# Altium schematic symbol library IntLib.SchLib: 161 symbols (part 3 of 3)
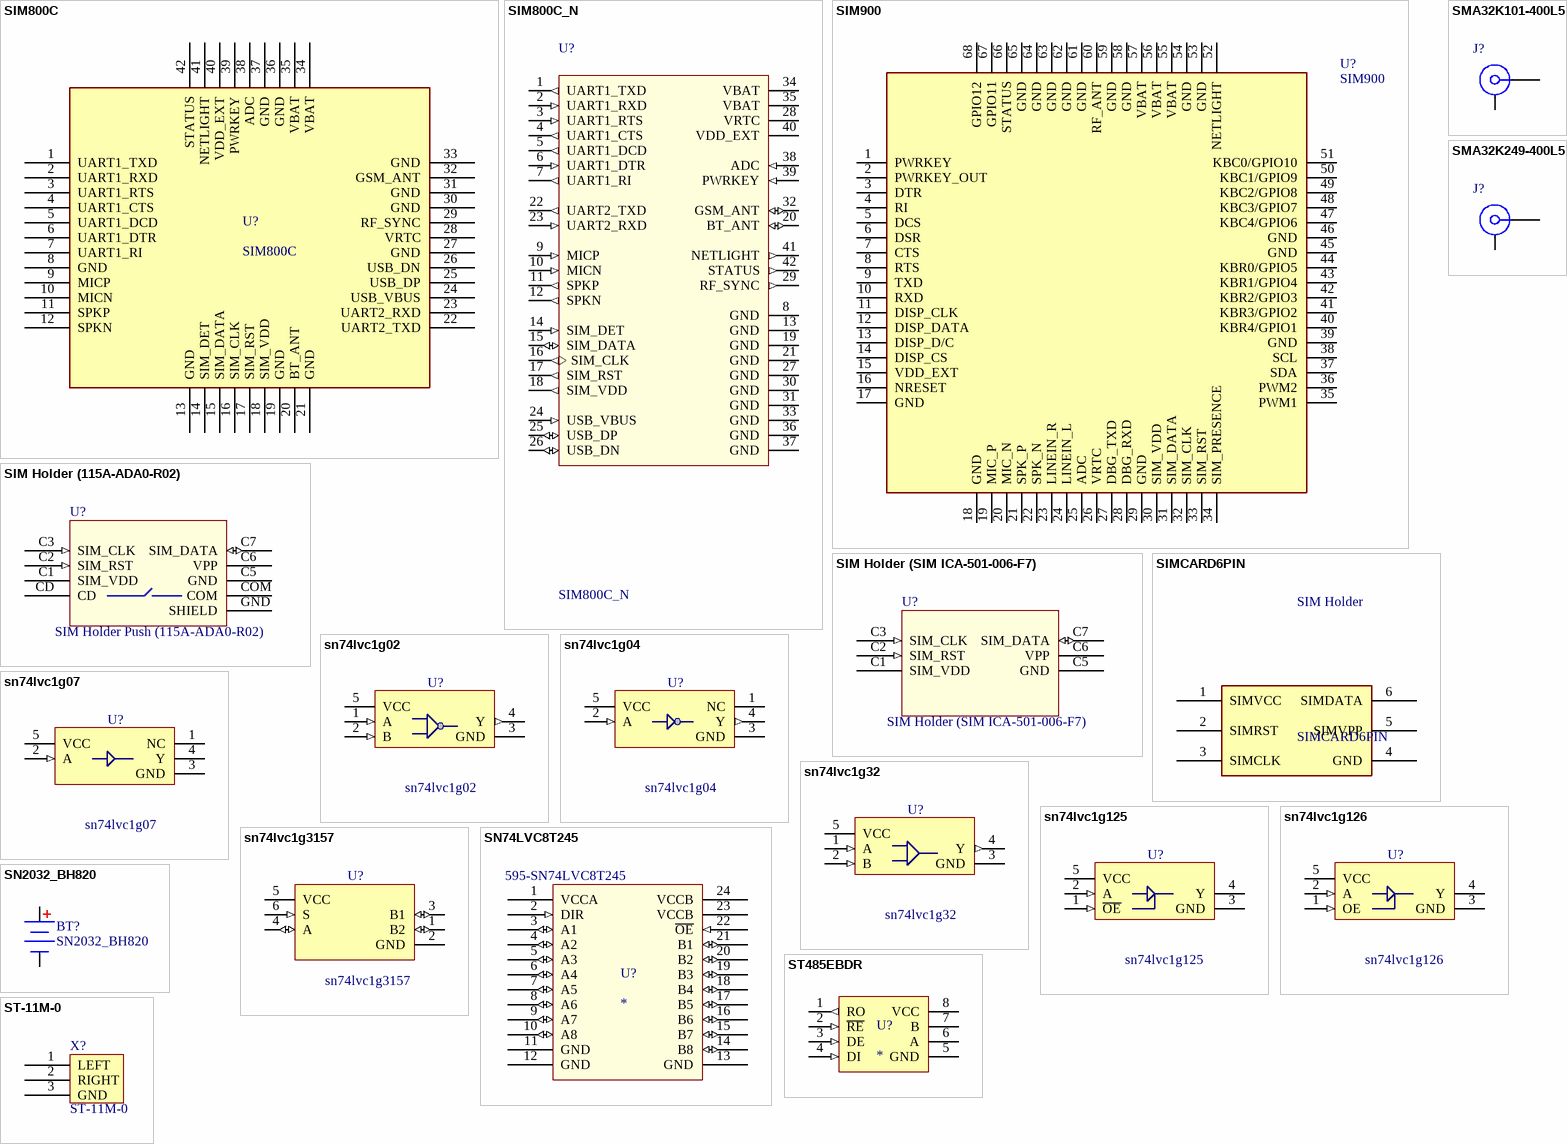
[diagram p10: symbols SIM800C to ST-11M-0]

## sn74lvc1g125
designator U?
Single Buffer/Driver With Open-Drain Output; Published: 29-Jan-2009; DatasheetVersion: revA, Aug-2007; PackageVersion: revAW, Oct-2008; PackageReference: SOT-23-OT5; Publisher: Altium Limited; PackageDescription: 5-Lead Plastic Small Outline Transistor (OT) [SOT-23]; Code_IPC: SOT23-5; ComponentLink1Description: Manufacturer Link; ComponentLink1URL: http://www.microchip.com; ComponentLink2Description: Datasheet; ComponentLink2URL: http://ww1.microchip.com/downloads/en/DeviceDoc/22070a.pdf; ComponentLink3Description: Packaging Specification; ComponentLink3URL: http://ww1.microchip.com/downloads/en/PackagingSpec/00049AW.pdf
footprint SOT23-5
footprint SOT353 (SOT-353/SC-88A; 5 Leads; Body 2.2 x 2.2 mm, inc. leads (LxW max))
pins: 1 ~{OE} (in), 2 A (in), 3 GND (power), 4 Y (oc), 5 VCC (power)

## sn74lvc1g126
designator U?
Single Buffer/Driver With Open-Drain Output; Published: 29-Jan-2009; DatasheetVersion: revA, Aug-2007; PackageVersion: revAW, Oct-2008; PackageReference: SOT-23-OT5; Publisher: Altium Limited; PackageDescription: 5-Lead Plastic Small Outline Transistor (OT) [SOT-23]; Code_IPC: SOT23-5; ComponentLink1Description: Manufacturer Link; ComponentLink1URL: http://www.microchip.com; ComponentLink2Description: Datasheet; ComponentLink2URL: http://ww1.microchip.com/downloads/en/DeviceDoc/22070a.pdf; ComponentLink3Description: Packaging Specification; ComponentLink3URL: http://ww1.microchip.com/downloads/en/PackagingSpec/00049AW.pdf
footprint SOT23-5
footprint SOT353 (SOT-353/SC-88A; 5 Leads; Body 2.2 x 2.2 mm, inc. leads (LxW max))
pins: 1 OE (in), 2 A (in), 3 GND (power), 4 Y (oc), 5 VCC (power)

## sn74lvc1g3157
designator U?
Analog Switch; Published: 29-Jan-2009; DatasheetVersion: revA, Aug-2007; PackageVersion: revAW, Oct-2008; PackageReference: SOT-23-OT5; Publisher: Altium Limited; PackageDescription: 5-Lead Plastic Small Outline Transistor (OT) [SOT-23]; Code_IPC: SOT23-5; ComponentLink1Description: Manufacturer Link; ComponentLink1URL: http://www.microchip.com; ComponentLink2Description: Datasheet; ComponentLink2URL: http://ww1.microchip.com/downloads/en/DeviceDoc/22070a.pdf; ComponentLink3Description: Packaging Specification; ComponentLink3URL: http://ww1.microchip.com/downloads/en/PackagingSpec/00049AW.pdf
footprint SOT23-6
footprint SOT666 (SOT-6)
footprint SOT363 (SOT-363/SC-88; 6 Leads; Body 2.2 x 2.2 mm, inc. leads (LxW max))
pins: 1 B2 (io), 2 GND (power), 3 B1 (io), 4 A (io), 5 VCC (power), 6 S (in)

## SN74LVC8T245
designator U?  Supplier Part Number 1: 595-SN74LVC8T245
Level Shift; Manufacturer: Texas Instruments; GENERIC_PART_NUMBER: SN74LVC8T245; Manufacturer_Part_Number: sn74lvc8t245_dw_24; INDUSTRY_STD_PKG_TYPE: SOIC; FAMILY_NAME: DIRECTION CONTROL DUAL SUPPLY TRANSLATOR; PIN_COUNT: 24; PACKAGE_DESIGNATOR: DW; Datasheet URL: http://www.ti.com/lit/gpn/SN74LVC8T245; Vendor: Texas Instruments; RefDes: RefDes; Type: DEV; Value: Value; Supplier 1: Mouser
footprint DW24
footprint PW24 (Shrink Small Outline; 24 Leads; Body Width 4.4 mm; Pitch 0.65 mm)
pins: 1 VCCA (power), 2 DIR (in), 3 A1 (io), 4 A2 (io), 5 A3 (io), 6 A4 (io), 7 A5 (io), 8 A6 (io), 9 A7 (io), 10 A8 (io), 11 GND (power), 12 GND (power), 13 GND (power), 14 B8 (io), 15 B7 (io), 16 B6 (io), 17 B5 (io), 18 B4 (io), 19 B3 (io), 20 B2 (io), 21 B1 (io), 22 ~{OE} (in), 23 VCCB (power), 24 VCCB (power)

## SN2032_BH820
designator BT?
Multicell Battery; Published: 24-Mar-1999; LatestRevisionDate: 17-Jul-2002; LatestRevisionNote: Re-released for DXP Platform.; PackageReference: BAT-2; Publisher: Altium Limited
footprint BAT_SOCK20
pins: 1 +, 2 -

## ST485EBDR
designator U?
RS-485/RS-422 transciver
footprint SO8-150
pins: 1 RO (out), 2 ~{RE} (in), 3 DE (in), 4 DI (in), 5 GND (power), 6 A, 7 B, 8 VCC (power)

## ST-11M-0
designator X?
stereo audio 3.5mm
footprint ST-11M-0 (D=3,5mm, stereo 14õ5,4õ5)
pins: 1 LEFT, 2 RIGHT, 3 GND

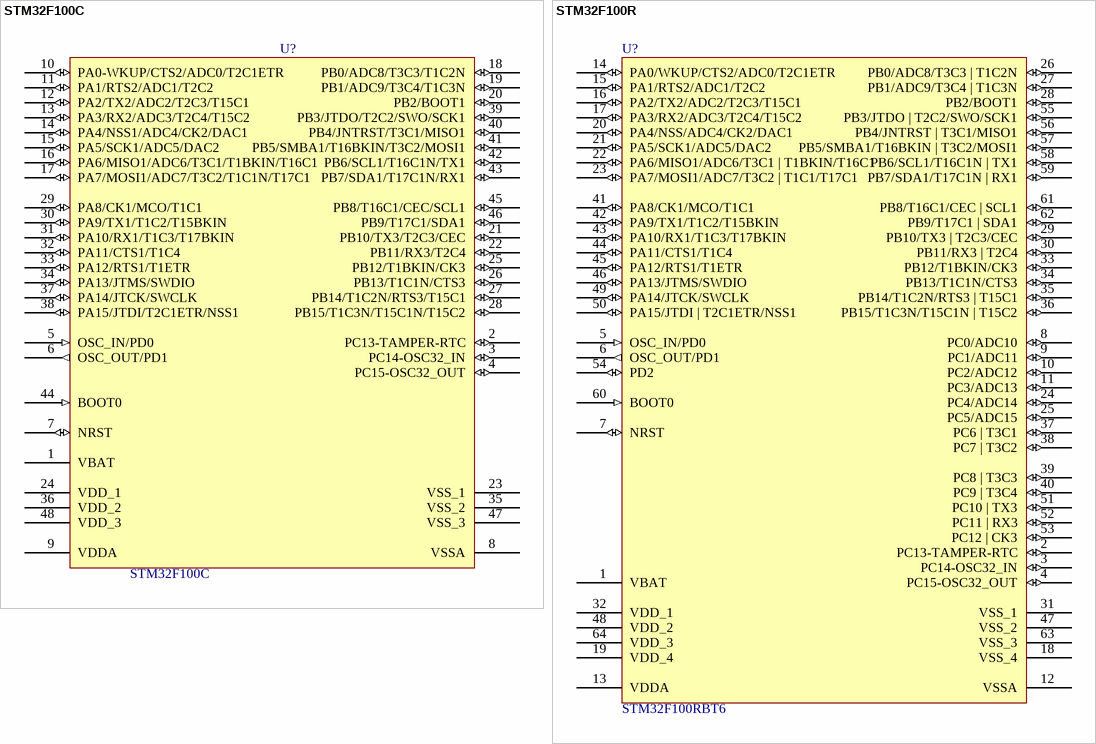
[diagram p5: symbols STM32F100C to STM32F100R]

## STM32F100C
designator U?
STM32 ARM-based 32-bit MCU with 32 Kbytes Flash, 48-pin LQFP, Industrial Temperature; Published: 30-May-2008; DatasheetVersion: Mar-2010; PackageVersion: Mar-2008; PackageReference: LQFP48; Publisher: Altium Limited; PackageDescription: 48-Pin Low-Profile Quad Flat Pack, 7 x 7 mm Body, 0.5 mm Pitch (LQFP48); ComponentLink1Description: Manufacturer Link; ComponentLink1URL: www.st.com/stm32; ComponentLink2Description: Datasheet; ComponentLink2URL: http://www.st.com/stonline/products/literature/ds/13586.pdf
footprint LQFP48 (Thin QFP, 48-Leads, Body 7x7mm, Pitch 0.5mm, IPC High Density)
pins: 1 VBAT (power), 2 PC13-TAMPER-RTC (io), 3 PC14-OSC32_IN (io), 4 PC15-OSC32_OUT (io), 5 OSC_IN/PD0 (in), 6 OSC_OUT/PD1 (out), 7 NRST (io), 8 VSSA (power), 9 VDDA (power), 10 PA0-WKUP/CTS2/ADC0/T2C1ETR (io), 11 PA1/RTS2/ADC1/T2C2 (io), 12 PA2/TX2/ADC2/T2C3/T15C1 (io), 13 PA3/RX2/ADC3/T2C4/T15C2 (io), 14 PA4/NSS1/ADC4/CK2/DAC1 (io), 15 PA5/SCK1/ADC5/DAC2 (io), 16 PA6/MISO1/ADC6/T3C1/T1BKIN/T16C1 (io), 17 PA7/MOSI1/ADC7/T3C2/T1C1N/T17C1 (io), 18 PB0/ADC8/T3C3/T1C2N (io), 19 PB1/ADC9/T3C4/T1C3N (io), 20 PB2/BOOT1 (io), 21 PB10/TX3/T2C3/CEC (io), 22 PB11/RX3/T2C4 (io), 23 VSS_1 (power), 24 VDD_1 (power), 25 PB12/T1BKIN/CK3 (io), 26 PB13/T1C1N/CTS3 (io), 27 PB14/T1C2N/RTS3/T15C1 (io), 28 PB15/T1C3N/T15C1N/T15C2 (io), 29 PA8/CK1/MCO/T1C1 (io), 30 PA9/TX1/T1C2/T15BKIN (io), 31 PA10/RX1/T1C3/T17BKIN (io), 32 PA11/CTS1/T1C4 (io), 33 PA12/RTS1/T1ETR (io), 34 PA13/JTMS/SWDIO (io), 35 VSS_2 (power), 36 VDD_2 (power), 37 PA14/JTCK/SWCLK (io), 38 PA15/JTDI/T2C1ETR/NSS1 (io), 39 PB3/JTDO/T2C2/SWO/SCK1 (io), 40 PB4/JNTRST/T3C1/MISO1 (io), 41 PB5/SMBA1/T16BKIN/T3C2/MOSI1 (io), 42 PB6/SCL1/T16C1N/TX1 (io), 43 PB7/SDA1/T17C1N/RX1 (io), 44 BOOT0 (in), 45 PB8/T16C1/CEC/SCL1 (io), 46 PB9/T17C1/SDA1 (io), 47 VSS_3 (power), 48 VDD_3 (power)

## STM32F100R
designator U?, comment STM32F100RBT6
STM32 ARM-based 32-bit MCU with 128 Kbytes Flash, 64-pin LQFP; Published: 30-May-2008; DatasheetVersion: rev6, Mar-2008; PackageVersion: Mar-2008; PackageReference: LQFP64; Publisher: Altium Limited; PackageDescription: 64-Pin Low-Profile Quad Flat Pack, 10 x 10 mm Body, 0.5 mm Pitch (LQFP64); ComponentLink1Description: Manufacturer Link; ComponentLink1URL: www.st.com/stm32; ComponentLink2Description: Datasheet; ComponentLink2URL: http://www.st.com/stonline/products/literature/ds/13586.pdf
footprint LQFP64_N (Thin QFP, 64-Leads, Body 10x10mm, Pitch 0.5mm, IPC Medium Density)
footprint LQFP64_L (Thin QFP, 64-Leads, Body 10x10mm, Pitch 0.5mm, IPC High Density)
footprint LQFP64_M (Thin QFP, 64-Leads, Body 10x10mm, Pitch 0.5mm, IPC Low Density)
pins: 1 VBAT (power), 2 PC13-TAMPER-RTC (io), 3 PC14-OSC32_IN (io), 4 PC15-OSC32_OUT (io), 5 OSC_IN/PD0 (in), 6 OSC_OUT/PD1 (out), 7 NRST (io), 8 PC0/ADC10 (io), 9 PC1/ADC11 (io), 10 PC2/ADC12 (io), 11 PC3/ADC13 (io), 12 VSSA (power), 13 VDDA (power), 14 PA0/WKUP/CTS2/ADC0/T2C1ETR (io), 15 PA1/RTS2/ADC1/T2C2 (io), 16 PA2/TX2/ADC2/T2C3/T15C1 (io), 17 PA3/RX2/ADC3/T2C4/T15C2 (io), 18 VSS_4 (power), 19 VDD_4 (power), 20 PA4/NSS/ADC4/CK2/DAC1 (io), 21 PA5/SCK1/ADC5/DAC2 (io), 22 PA6/MISO1/ADC6/T3C1 | T1BKIN/T16C1 (io), 23 PA7/MOSI1/ADC7/T3C2 | T1C1/T17C1 (io), 24 PC4/ADC14 (io), 25 PC5/ADC15 (io), 26 PB0/ADC8/T3C3 | T1C2N (io), 27 PB1/ADC9/T3C4 | T1C3N (io), 28 PB2/BOOT1 (io), 29 PB10/TX3 | T2C3/CEC (io), 30 PB11/RX3 | T2C4 (io), 31 VSS_1 (power), 32 VDD_1 (power), 33 PB12/T1BKIN/CK3 (io), 34 PB13/T1C1N/CTS3 (io), 35 PB14/T1C2N/RTS3 | T15C1 (io), 36 PB15/T1C3N/T15C1N | T15C2 (io), 37 PC6 | T3C1 (io), 38 PC7 | T3C2 (io), 39 PC8 | T3C3 (io), 40 PC9 | T3C4 (io), 41 PA8/CK1/MCO/T1C1 (io), 42 PA9/TX1/T1C2/T15BKIN (io), 43 PA10/RX1/T1C3/T17BKIN (io), 44 PA11/CTS1/T1C4 (io), 45 PA12/RTS1/T1ETR (io), 46 PA13/JTMS/SWDIO (io), 47 VSS_2 (power), 48 VDD_2 (power), 49 PA14/JTCK/SWCLK (io), 50 PA15/JTDI | T2C1ETR/NSS1 (io), 51 PC10 | TX3 (io), 52 PC11 | RX3 (io), 53 PC12 | CK3 (io), 54 PD2 (io), 55 PB3/JTDO | T2C2/SWO/SCK1 (io), 56 PB4/JNTRST | T3C1/MISO1 (io), 57 PB5/SMBA1/T16BKIN | T3C2/MOSI1 (io), 58 PB6/SCL1/T16C1N | TX1 (io), 59 PB7/SDA1/T17C1N | RX1 (io), 60 BOOT0 (in), 61 PB8/T16C1/CEC | SCL1 (io), 62 PB9/T17C1 | SDA1 (io), 63 VSS_3 (power), 64 VDD_3 (power)

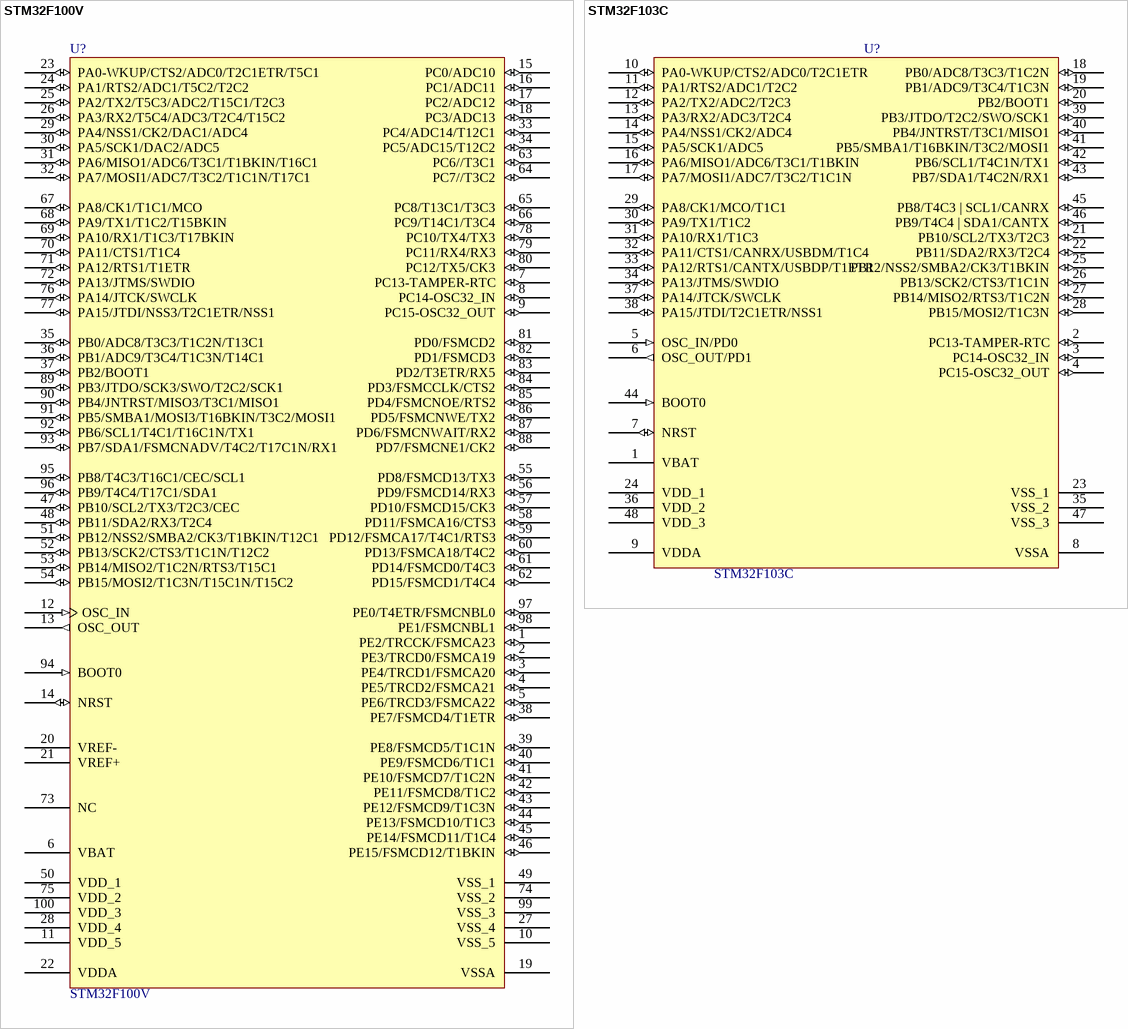
[diagram p6: symbols STM32F100V to STM32F103C]

## STM32F100V
designator U?
STM32 ARM-based 32-bit MCU with 64 Kbytes Flash, 100-pin LQFP, Industrial Temperature; Published: 30-May-2008; DatasheetVersion: rev6, Mar-2008; PackageVersion: Mar-2008; PackageReference: LQFP100; Publisher: Altium Limited; PackageDescription: 100-Pin Low-Profile Quad Flat Pack, 14 x 14 mm Body, 0.5 mm Pitch (LQFP100); ComponentLink1Description: Manufacturer Link; ComponentLink1URL: www.st.com/stm32; ComponentLink2Description: Datasheet; ComponentLink2URL: http://www.st.com/stonline/products/literature/ds/13587.pdf
footprint LQFP100 (Thin QFP, 100-Leads, Body 14x14mm, Pitch 0.5mm, IPC High Density)
pins: 1 PE2/TRCCK/FSMCA23 (io), 2 PE3/TRCD0/FSMCA19 (io), 3 PE4/TRCD1/FSMCA20 (io), 4 PE5/TRCD2/FSMCA21 (io), 5 PE6/TRCD3/FSMCA22 (io), 6 VBAT (power), 7 PC13-TAMPER-RTC (io), 8 PC14-OSC32_IN (io), 9 PC15-OSC32_OUT (io), 10 VSS_5 (power), 11 VDD_5 (power), 12 OSC_IN (in), 13 OSC_OUT (out), 14 NRST (io), 15 PC0/ADC10 (io), 16 PC1/ADC11 (io), 17 PC2/ADC12 (io), 18 PC3/ADC13 (io), 19 VSSA (power), 20 VREF- (power), 21 VREF+ (power), 22 VDDA (power), 23 PA0-WKUP/CTS2/ADC0/T2C1ETR/T5C1 (io), 24 PA1/RTS2/ADC1/T5C2/T2C2 (io), 25 PA2/TX2/T5C3/ADC2/T15C1/T2C3 (io), 26 PA3/RX2/T5C4/ADC3/T2C4/T15C2 (io), 27 VSS_4 (power), 28 VDD_4 (power), 29 PA4/NSS1/CK2/DAC1/ADC4 (io), 30 PA5/SCK1/DAC2/ADC5 (io), 31 PA6/MISO1/ADC6/T3C1/T1BKIN/T16C1 (io), 32 PA7/MOSI1/ADC7/T3C2/T1C1N/T17C1 (io), 33 PC4/ADC14/T12C1 (io), 34 PC5/ADC15/T12C2 (io), 35 PB0/ADC8/T3C3/T1C2N/T13C1 (io), 36 PB1/ADC9/T3C4/T1C3N/T14C1 (io), 37 PB2/BOOT1 (io), 38 PE7/FSMCD4/T1ETR (io), 39 PE8/FSMCD5/T1C1N (io), 40 PE9/FSMCD6/T1C1 (io), 41 PE10/FSMCD7/T1C2N (io), 42 PE11/FSMCD8/T1C2 (io), 43 PE12/FSMCD9/T1C3N (io), 44 PE13/FSMCD10/T1C3 (io), 45 PE14/FSMCD11/T1C4 (io), 46 PE15/FSMCD12/T1BKIN (io), 47 PB10/SCL2/TX3/T2C3/CEC (io), 48 PB11/SDA2/RX3/T2C4 (io), 49 VSS_1 (power), 50 VDD_1 (power), 51 PB12/NSS2/SMBA2/CK3/T1BKIN/T12C1 (io), 52 PB13/SCK2/CTS3/T1C1N/T12C2 (io), 53 PB14/MISO2/T1C2N/RTS3/T15C1 (io), 54 PB15/MOSI2/T1C3N/T15C1N/T15C2 (io), 55 PD8/FSMCD13/TX3 (io), 56 PD9/FSMCD14/RX3 (io), 57 PD10/FSMCD15/CK3 (io), 58 PD11/FSMCA16/CTS3 (io), 59 PD12/FSMCA17/T4C1/RTS3 (io), 60 PD13/FSMCA18/T4C2 (io), 61 PD14/FSMCD0/T4C3 (io), 62 PD15/FSMCD1/T4C4 (io), 63 PC6//T3C1 (io), 64 PC7//T3C2 (io), 65 PC8/T13C1/T3C3 (io), 66 PC9/T14C1/T3C4 (io), 67 PA8/CK1/T1C1/MCO (io), 68 PA9/TX1/T1C2/T15BKIN (io), 69 PA10/RX1/T1C3/T17BKIN (io), 70 PA11/CTS1/T1C4 (io), 71 PA12/RTS1/T1ETR (io), 72 PA13/JTMS/SWDIO (io), 73 NC, 74 VSS_2 (power), 75 VDD_2 (power), 76 PA14/JTCK/SWCLK (io), 77 PA15/JTDI/NSS3/T2C1ETR/NSS1 (io), 78 PC10/TX4/TX3 (io), 79 PC11/RX4/RX3 (io), 80 PC12/TX5/CK3 (io), 81 PD0/FSMCD2 (io), 82 PD1/FSMCD3 (io), 83 PD2/T3ETR/RX5 (io), 84 PD3/FSMCCLK/CTS2 (io), 85 PD4/FSMCNOE/RTS2 (io), 86 PD5/FSMCNWE/TX2 (io), 87 PD6/FSMCNWAIT/RX2 (io), 88 PD7/FSMCNE1/CK2 (io), 89 PB3/JTDO/SCK3/SWO/T2C2/SCK1 (io), 90 PB4/JNTRST/MISO3/T3C1/MISO1 (io), 91 PB5/SMBA1/MOSI3/T16BKIN/T3C2/MOSI1 (io), 92 PB6/SCL1/T4C1/T16C1N/TX1 (io), 93 PB7/SDA1/FSMCNADV/T4C2/T17C1N/RX1 (io), 94 BOOT0 (in), 95 PB8/T4C3/T16C1/CEC/SCL1 (io), 96 PB9/T4C4/T17C1/SDA1 (io), 97 PE0/T4ETR/FSMCNBL0 (io), 98 PE1/FSMCNBL1 (io), 99 VSS_3 (power), 100 VDD_3 (power)

## STM32F103C
designator U?
STM32 ARM-based 32-bit MCU with 32 Kbytes Flash, 48-pin LQFP, Industrial Temperature; Published: 30-May-2008; DatasheetVersion: Mar-2010; PackageVersion: Mar-2008; PackageReference: LQFP48; Publisher: Altium Limited; PackageDescription: 48-Pin Low-Profile Quad Flat Pack, 7 x 7 mm Body, 0.5 mm Pitch (LQFP48); ComponentLink1Description: Manufacturer Link; ComponentLink1URL: www.st.com/stm32; ComponentLink2Description: Datasheet; ComponentLink2URL: http://www.st.com/stonline/products/literature/ds/13586.pdf
footprint LQFP48 (Thin QFP, 48-Leads, Body 7x7mm, Pitch 0.5mm, IPC High Density)
pins: 1 VBAT (power), 2 PC13-TAMPER-RTC (io), 3 PC14-OSC32_IN (io), 4 PC15-OSC32_OUT (io), 5 OSC_IN/PD0 (in), 6 OSC_OUT/PD1 (out), 7 NRST (io), 8 VSSA (power), 9 VDDA (power), 10 PA0-WKUP/CTS2/ADC0/T2C1ETR (io), 11 PA1/RTS2/ADC1/T2C2 (io), 12 PA2/TX2/ADC2/T2C3 (io), 13 PA3/RX2/ADC3/T2C4 (io), 14 PA4/NSS1/CK2/ADC4 (io), 15 PA5/SCK1/ADC5 (io), 16 PA6/MISO1/ADC6/T3C1/T1BKIN (io), 17 PA7/MOSI1/ADC7/T3C2/T1C1N (io), 18 PB0/ADC8/T3C3/T1C2N (io), 19 PB1/ADC9/T3C4/T1C3N (io), 20 PB2/BOOT1 (io), 21 PB10/SCL2/TX3/T2C3 (io), 22 PB11/SDA2/RX3/T2C4 (io), 23 VSS_1 (power), 24 VDD_1 (power), 25 PB12/NSS2/SMBA2/CK3/T1BKIN (io), 26 PB13/SCK2/CTS3/T1C1N (io), 27 PB14/MISO2/RTS3/T1C2N (io), 28 PB15/MOSI2/T1C3N (io), 29 PA8/CK1/MCO/T1C1 (io), 30 PA9/TX1/T1C2 (io), 31 PA10/RX1/T1C3 (io), 32 PA11/CTS1/CANRX/USBDM/T1C4 (io), 33 PA12/RTS1/CANTX/USBDP/T1ETR (io), 34 PA13/JTMS/SWDIO (io), 35 VSS_2 (power), 36 VDD_2 (power), 37 PA14/JTCK/SWCLK (io), 38 PA15/JTDI/T2C1ETR/NSS1 (io), 39 PB3/JTDO/T2C2/SWO/SCK1 (io), 40 PB4/JNTRST/T3C1/MISO1 (io), 41 PB5/SMBA1/T16BKIN/T3C2/MOSI1 (io), 42 PB6/SCL1/T4C1N/TX1 (io), 43 PB7/SDA1/T4C2N/RX1 (io), 44 BOOT0 (in), 45 PB8/T4C3 | SCL1/CANRX (io), 46 PB9/T4C4 | SDA1/CANTX (io), 47 VSS_3 (power), 48 VDD_3 (power)

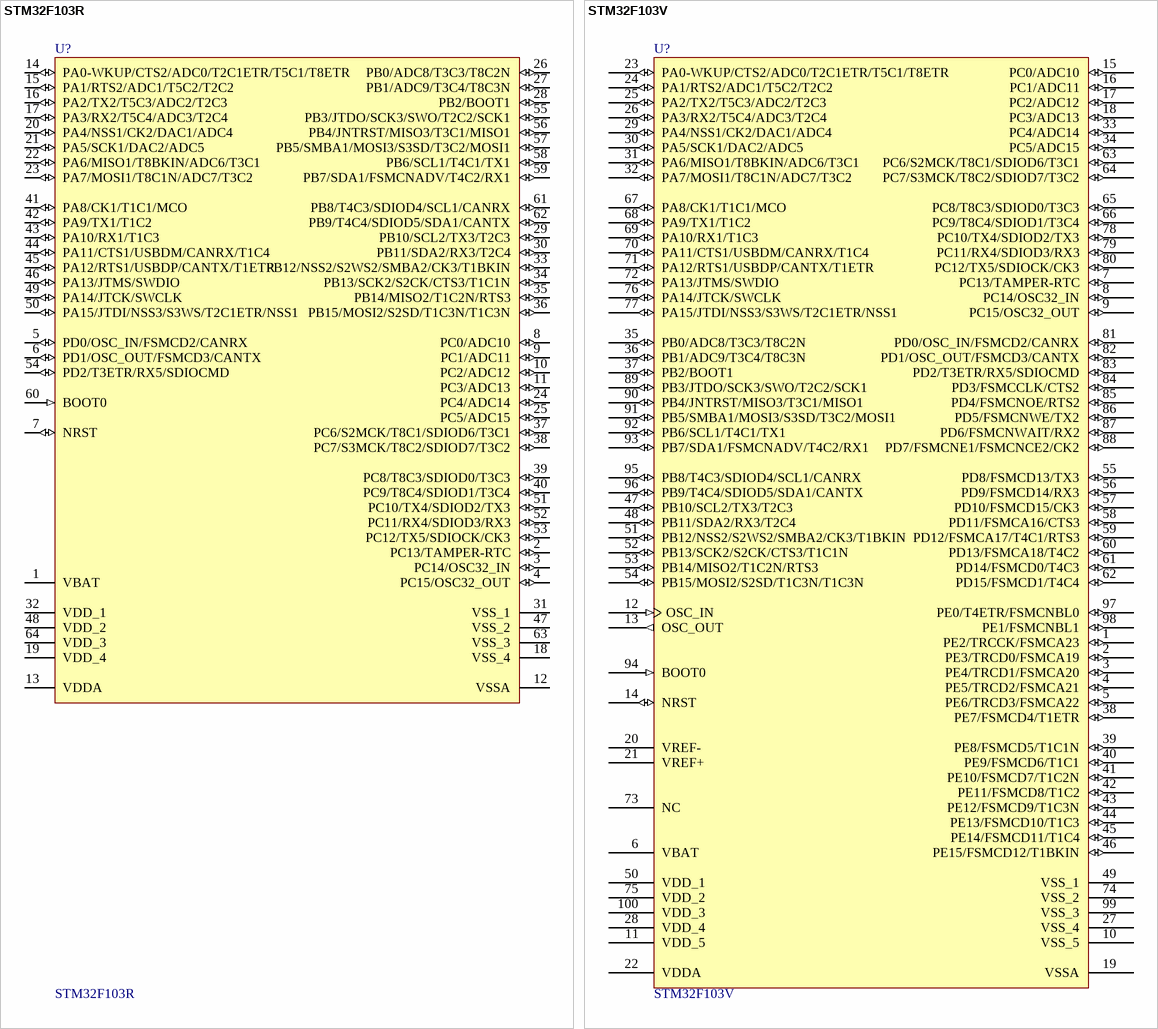
[diagram p7: symbols STM32F103R to STM32F103V]

## STM32F103R
designator U?
STM32 ARM-based 32-bit MCU with 64 Kbytes Flash, 64-pin LQFP, Industrial Temperature; Published: 30-May-2008; DatasheetVersion: rev6, Mar-2008; PackageVersion: Mar-2008; PackageReference: LQFP100; Publisher: Altium Limited; PackageDescription: 100-Pin Low-Profile Quad Flat Pack, 14 x 14 mm Body, 0.5 mm Pitch (LQFP100); ComponentLink1Description: Manufacturer Link; ComponentLink1URL: www.st.com/stm32; ComponentLink2Description: Datasheet; ComponentLink2URL: http://www.st.com/stonline/products/literature/ds/13587.pdf
footprint LQFP64 (Footprint not found)
pins: 1 VBAT (power), 2 PC13/TAMPER-RTC (io), 3 PC14/OSC32_IN (io), 4 PC15/OSC32_OUT (io), 5 PD0/OSC_IN/FSMCD2/CANRX (io), 6 PD1/OSC_OUT/FSMCD3/CANTX (io), 7 NRST (io), 8 PC0/ADC10 (io), 9 PC1/ADC11 (io), 10 PC2/ADC12 (io), 11 PC3/ADC13 (io), 12 VSSA (power), 13 VDDA (power), 14 PA0-WKUP/CTS2/ADC0/T2C1ETR/T5C1/T8ETR (io), 15 PA1/RTS2/ADC1/T5C2/T2C2 (io), 16 PA2/TX2/T5C3/ADC2/T2C3 (io), 17 PA3/RX2/T5C4/ADC3/T2C4 (io), 18 VSS_4 (power), 19 VDD_4 (power), 20 PA4/NSS1/CK2/DAC1/ADC4 (io), 21 PA5/SCK1/DAC2/ADC5 (io), 22 PA6/MISO1/T8BKIN/ADC6/T3C1 (io), 23 PA7/MOSI1/T8C1N/ADC7/T3C2 (io), 24 PC4/ADC14 (io), 25 PC5/ADC15 (io), 26 PB0/ADC8/T3C3/T8C2N (io), 27 PB1/ADC9/T3C4/T8C3N (io), 28 PB2/BOOT1 (io), 29 PB10/SCL2/TX3/T2C3 (io), 30 PB11/SDA2/RX3/T2C4 (io), 31 VSS_1 (power), 32 VDD_1 (power), 33 PB12/NSS2/S2WS2/SMBA2/CK3/T1BKIN (io), 34 PB13/SCK2/S2CK/CTS3/T1C1N (io), 35 PB14/MISO2/T1C2N/RTS3 (io), 36 PB15/MOSI2/S2SD/T1C3N/T1C3N (io), 37 PC6/S2MCK/T8C1/SDIOD6/T3C1 (io), 38 PC7/S3MCK/T8C2/SDIOD7/T3C2 (io), 39 PC8/T8C3/SDIOD0/T3C3 (io), 40 PC9/T8C4/SDIOD1/T3C4 (io), 41 PA8/CK1/T1C1/MCO (io), 42 PA9/TX1/T1C2 (io), 43 PA10/RX1/T1C3 (io), 44 PA11/CTS1/USBDM/CANRX/T1C4 (io), 45 PA12/RTS1/USBDP/CANTX/T1ETR (io), 46 PA13/JTMS/SWDIO (io), 47 VSS_2 (power), 48 VDD_2 (power), 49 PA14/JTCK/SWCLK (io), 50 PA15/JTDI/NSS3/S3WS/T2C1ETR/NSS1 (io), 51 PC10/TX4/SDIOD2/TX3 (io), 52 PC11/RX4/SDIOD3/RX3 (io), 53 PC12/TX5/SDIOCK/CK3 (io), 54 PD2/T3ETR/RX5/SDIOCMD (io), 55 PB3/JTDO/SCK3/SWO/T2C2/SCK1 (io), 56 PB4/JNTRST/MISO3/T3C1/MISO1 (io), 57 PB5/SMBA1/MOSI3/S3SD/T3C2/MOSI1 (io), 58 PB6/SCL1/T4C1/TX1 (io), 59 PB7/SDA1/FSMCNADV/T4C2/RX1 (io), 60 BOOT0 (in), 61 PB8/T4C3/SDIOD4/SCL1/CANRX (io), 62 PB9/T4C4/SDIOD5/SDA1/CANTX (io), 63 VSS_3 (power), 64 VDD_3 (power)

## STM32F103V
designator U?
STM32 ARM-based 32-bit MCU with 64 Kbytes Flash, 100-pin LQFP, Industrial Temperature; Published: 30-May-2008; DatasheetVersion: rev6, Mar-2008; PackageVersion: Mar-2008; PackageReference: LQFP100; Publisher: Altium Limited; PackageDescription: 100-Pin Low-Profile Quad Flat Pack, 14 x 14 mm Body, 0.5 mm Pitch (LQFP100); ComponentLink1Description: Manufacturer Link; ComponentLink1URL: www.st.com/stm32; ComponentLink2Description: Datasheet; ComponentLink2URL: http://www.st.com/stonline/products/literature/ds/13587.pdf
footprint LQFP100 (Thin QFP, 100-Leads, Body 14x14mm, Pitch 0.5mm, IPC High Density)
pins: 1 PE2/TRCCK/FSMCA23 (io), 2 PE3/TRCD0/FSMCA19 (io), 3 PE4/TRCD1/FSMCA20 (io), 4 PE5/TRCD2/FSMCA21 (io), 5 PE6/TRCD3/FSMCA22 (io), 6 VBAT (power), 7 PC13/TAMPER-RTC (io), 8 PC14/OSC32_IN (io), 9 PC15/OSC32_OUT (io), 10 VSS_5 (power), 11 VDD_5 (power), 12 OSC_IN (in), 13 OSC_OUT (out), 14 NRST (io), 15 PC0/ADC10 (io), 16 PC1/ADC11 (io), 17 PC2/ADC12 (io), 18 PC3/ADC13 (io), 19 VSSA (power), 20 VREF- (power), 21 VREF+ (power), 22 VDDA (power), 23 PA0-WKUP/CTS2/ADC0/T2C1ETR/T5C1/T8ETR (io), 24 PA1/RTS2/ADC1/T5C2/T2C2 (io), 25 PA2/TX2/T5C3/ADC2/T2C3 (io), 26 PA3/RX2/T5C4/ADC3/T2C4 (io), 27 VSS_4 (power), 28 VDD_4 (power), 29 PA4/NSS1/CK2/DAC1/ADC4 (io), 30 PA5/SCK1/DAC2/ADC5 (io), 31 PA6/MISO1/T8BKIN/ADC6/T3C1 (io), 32 PA7/MOSI1/T8C1N/ADC7/T3C2 (io), 33 PC4/ADC14 (io), 34 PC5/ADC15 (io), 35 PB0/ADC8/T3C3/T8C2N (io), 36 PB1/ADC9/T3C4/T8C3N (io), 37 PB2/BOOT1 (io), 38 PE7/FSMCD4/T1ETR (io), 39 PE8/FSMCD5/T1C1N (io), 40 PE9/FSMCD6/T1C1 (io), 41 PE10/FSMCD7/T1C2N (io), 42 PE11/FSMCD8/T1C2 (io), 43 PE12/FSMCD9/T1C3N (io), 44 PE13/FSMCD10/T1C3 (io), 45 PE14/FSMCD11/T1C4 (io), 46 PE15/FSMCD12/T1BKIN (io), 47 PB10/SCL2/TX3/T2C3 (io), 48 PB11/SDA2/RX3/T2C4 (io), 49 VSS_1 (power), 50 VDD_1 (power), 51 PB12/NSS2/S2WS2/SMBA2/CK3/T1BKIN (io), 52 PB13/SCK2/S2CK/CTS3/T1C1N (io), 53 PB14/MISO2/T1C2N/RTS3 (io), 54 PB15/MOSI2/S2SD/T1C3N/T1C3N (io), 55 PD8/FSMCD13/TX3 (io), 56 PD9/FSMCD14/RX3 (io), 57 PD10/FSMCD15/CK3 (io), 58 PD11/FSMCA16/CTS3 (io), 59 PD12/FSMCA17/T4C1/RTS3 (io), 60 PD13/FSMCA18/T4C2 (io), 61 PD14/FSMCD0/T4C3 (io), 62 PD15/FSMCD1/T4C4 (io), 63 PC6/S2MCK/T8C1/SDIOD6/T3C1 (io), 64 PC7/S3MCK/T8C2/SDIOD7/T3C2 (io), 65 PC8/T8C3/SDIOD0/T3C3 (io), 66 PC9/T8C4/SDIOD1/T3C4 (io), 67 PA8/CK1/T1C1/MCO (io), 68 PA9/TX1/T1C2 (io), 69 PA10/RX1/T1C3 (io), 70 PA11/CTS1/USBDM/CANRX/T1C4 (io), 71 PA12/RTS1/USBDP/CANTX/T1ETR (io), 72 PA13/JTMS/SWDIO (io), 73 NC, 74 VSS_2 (power), 75 VDD_2 (power), 76 PA14/JTCK/SWCLK (io), 77 PA15/JTDI/NSS3/S3WS/T2C1ETR/NSS1 (io), 78 PC10/TX4/SDIOD2/TX3 (io), 79 PC11/RX4/SDIOD3/RX3 (io), 80 PC12/TX5/SDIOCK/CK3 (io), 81 PD0/OSC_IN/FSMCD2/CANRX (io), 82 PD1/OSC_OUT/FSMCD3/CANTX (io), 83 PD2/T3ETR/RX5/SDIOCMD (io), 84 PD3/FSMCCLK/CTS2 (io), 85 PD4/FSMCNOE/RTS2 (io), 86 PD5/FSMCNWE/TX2 (io), 87 PD6/FSMCNWAIT/RX2 (io), 88 PD7/FSMCNE1/FSMCNCE2/CK2 (io), 89 PB3/JTDO/SCK3/SWO/T2C2/SCK1 (io), 90 PB4/JNTRST/MISO3/T3C1/MISO1 (io), 91 PB5/SMBA1/MOSI3/S3SD/T3C2/MOSI1 (io), 92 PB6/SCL1/T4C1/TX1 (io), 93 PB7/SDA1/FSMCNADV/T4C2/RX1 (io), 94 BOOT0 (in), 95 PB8/T4C3/SDIOD4/SCL1/CANRX (io), 96 PB9/T4C4/SDIOD5/SDA1/CANTX (io), 97 PE0/T4ETR/FSMCNBL0 (io), 98 PE1/FSMCNBL1 (io), 99 VSS_3 (power), 100 VDD_3 (power)

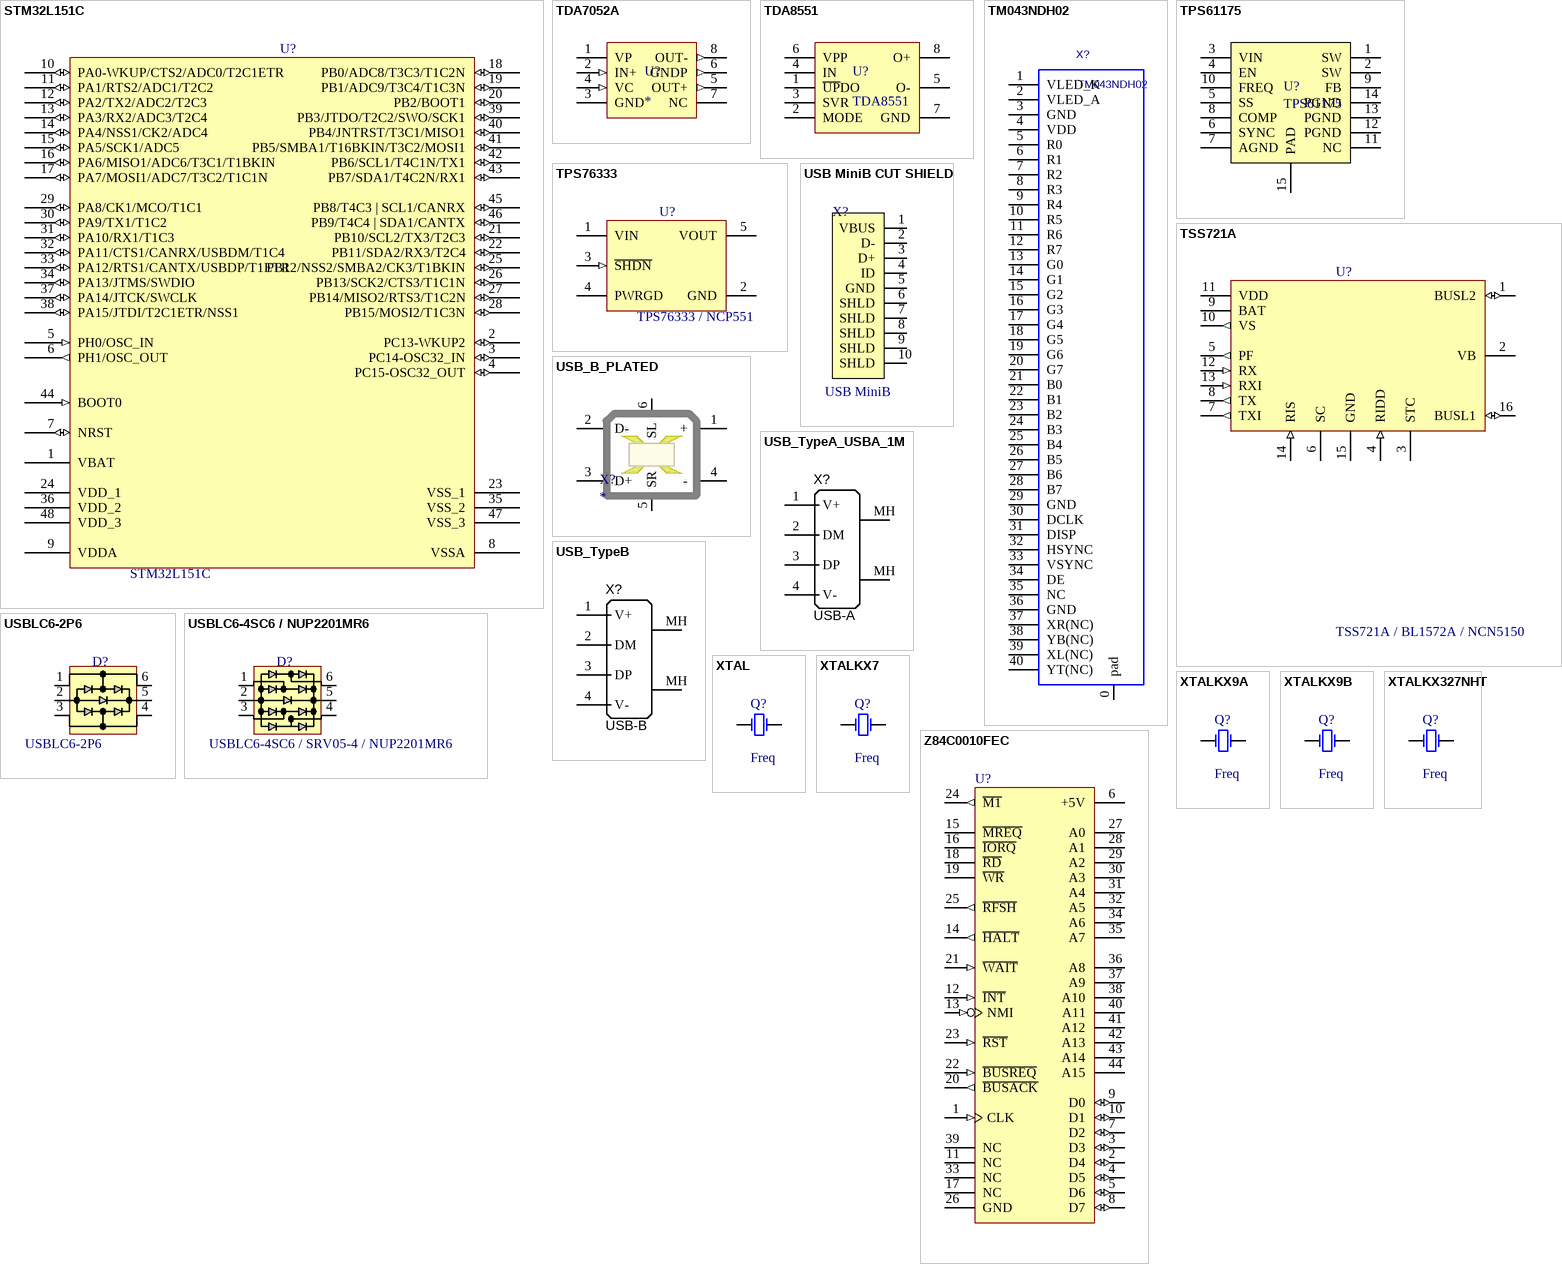
[diagram p8: symbols STM32L151C to Z84C0010FEC]

## STM32L151C
designator U?
STM32 ARM-based 32-bit MCU with 32 Kbytes Flash, 48-pin LQFP, Industrial Temperature; Published: 30-May-2008; DatasheetVersion: Mar-2010; PackageVersion: Mar-2008; PackageReference: LQFP48; Publisher: Altium Limited; PackageDescription: 48-Pin Low-Profile Quad Flat Pack, 7 x 7 mm Body, 0.5 mm Pitch (LQFP48); ComponentLink1Description: Manufacturer Link; ComponentLink1URL: www.st.com/stm32; ComponentLink2Description: Datasheet; ComponentLink2URL: http://www.st.com/stonline/products/literature/ds/13586.pdf
footprint LQFP48 (Thin QFP, 48-Leads, Body 7x7mm, Pitch 0.5mm, IPC High Density)
pins: 1 VBAT (power), 2 PC13-WKUP2 (io), 3 PC14-OSC32_IN (io), 4 PC15-OSC32_OUT (io), 5 PH0/OSC_IN (in), 6 PH1/OSC_OUT (out), 7 NRST (io), 8 VSSA (power), 9 VDDA (power), 10 PA0-WKUP/CTS2/ADC0/T2C1ETR (io), 11 PA1/RTS2/ADC1/T2C2 (io), 12 PA2/TX2/ADC2/T2C3 (io), 13 PA3/RX2/ADC3/T2C4 (io), 14 PA4/NSS1/CK2/ADC4 (io), 15 PA5/SCK1/ADC5 (io), 16 PA6/MISO1/ADC6/T3C1/T1BKIN (io), 17 PA7/MOSI1/ADC7/T3C2/T1C1N (io), 18 PB0/ADC8/T3C3/T1C2N (io), 19 PB1/ADC9/T3C4/T1C3N (io), 20 PB2/BOOT1 (io), 21 PB10/SCL2/TX3/T2C3 (io), 22 PB11/SDA2/RX3/T2C4 (io), 23 VSS_1 (power), 24 VDD_1 (power), 25 PB12/NSS2/SMBA2/CK3/T1BKIN (io), 26 PB13/SCK2/CTS3/T1C1N (io), 27 PB14/MISO2/RTS3/T1C2N (io), 28 PB15/MOSI2/T1C3N (io), 29 PA8/CK1/MCO/T1C1 (io), 30 PA9/TX1/T1C2 (io), 31 PA10/RX1/T1C3 (io), 32 PA11/CTS1/CANRX/USBDM/T1C4 (io), 33 PA12/RTS1/CANTX/USBDP/T1ETR (io), 34 PA13/JTMS/SWDIO (io), 35 VSS_2 (power), 36 VDD_2 (power), 37 PA14/JTCK/SWCLK (io), 38 PA15/JTDI/T2C1ETR/NSS1 (io), 39 PB3/JTDO/T2C2/SWO/SCK1 (io), 40 PB4/JNTRST/T3C1/MISO1 (io), 41 PB5/SMBA1/T16BKIN/T3C2/MOSI1 (io), 42 PB6/SCL1/T4C1N/TX1 (io), 43 PB7/SDA1/T4C2N/RX1 (io), 44 BOOT0 (in), 45 PB8/T4C3 | SCL1/CANRX (io), 46 PB9/T4C4 | SDA1/CANTX (io), 47 VSS_3 (power), 48 VDD_3 (power)

## TDA7052A
designator U?
Audio amplifier
footprint SO8-150
pins: 1 VP (power), 2 IN+ (in), 3 GND (power), 4 VC (in), 5 OUT+ (out), 6 GNDP (out), 7 NC, 8 OUT- (out)

## TDA8551
designator U?
1 W BTL audio amplifier with digital volume control
footprint SO8-150
pins: 1 ~{UP}DO, 2 MODE, 3 SVR, 4 IN, 5 O- (power), 6 VPP (power), 7 GND (power), 8 O+ (power)

## TM043NDH02
designator X?
Value: *
footprint F12A-40S-0.5SH
pins: 0 pad, 1 VLED_K, 2 VLED_A, 3 GND, 4 VDD, 5 R0, 6 R1, 7 R2, 8 R3, 9 R4, 10 R5, 11 R6, 12 R7, 13 G0, 14 G1, 15 G2, 16 G3, 17 G4, 18 G5, 19 G6, 20 G7, 21 B0, 22 B1, 23 B2, 24 B3, 25 B4, 26 B5, 27 B6, 28 B7, 29 GND, 30 DCLK, 31 DISP, 32 HSYNC, 33 VSYNC, 34 DE, 35 NC, 36 GND, 37 XR(NC), 38 YB(NC), 39 XL(NC), 40 YT(NC)

## TPS61175
designator U?
footprint HTSSOP14N (TSOP, 14-Leads, Body 5,0x4,4mm (max), Pitch 0,65mm, IPC Medium Density)
pins: 1 SW, 2 SW, 3 VIN, 4 EN, 5 SS, 6 SYNC, 7 AGND, 8 COMP, 9 FB, 10 FREQ, 11 NC, 12 PGND, 13 PGND, 14 PGND, 15 PAD

## TPS76333
designator U?, comment TPS76333 / NCP551
300 mA, Low Voltage, Low Quiescent Current LDO Regulator, 5-Pin SOT-23, Extended Temperature, Tape and Reel; Published: 29-Jan-2009; DatasheetVersion: revA, Aug-2007; PackageVersion: revAW, Oct-2008; PackageReference: SOT-23-OT5; Publisher: Altium Limited; PackageDescription: 5-Lead Plastic Small Outline Transistor (OT) [SOT-23]; Code_IPC: SOT23-5; ComponentLink1Description: Manufacturer Link; ComponentLink1URL: http://www.microchip.com; ComponentLink2Description: Datasheet; ComponentLink2URL: http://ww1.microchip.com/downloads/en/DeviceDoc/22070a.pdf; ComponentLink3Description: Packaging Specification; ComponentLink3URL: http://ww1.microchip.com/downloads/en/PackagingSpec/00049AW.pdf
footprint SOT23-5D (Footprint not found)
pins: 1 VIN (power), 2 GND (power), 3 ~{SHDN} (in), 4 PWRGD (power), 5 VOUT (power)

## TSS721A
designator U?, comment TSS721A / BL1572A / NCN5150
METER-BUS TRANSCEIVER; Manufacture: Silicon Laboratories; Compliant: RoHS; CompliantInformationSource: Silicon Laboratries; PackageDocument: 2005-09; TempertureRange: Industrial (-40 to +85Cel); ComponentLink1Description: Manufacture Link; ComponentLink1URL: http://www.silabs.com/; ComponentLink2Description: Datasheet; ComponentLink2URL: https://www.silabs.com/Support Documents/TechnicalDocs/CP2102.pdf; DatasheetDocument: Rev. 1.1, 2005-09; PackageReference: QFN-28; Published: 2007-08-06; Publisher: A and A System Co., Ltd.; DigiKeyPartNumber: 336-1160-ND
footprint SO16-150
pins: 1 BUSL2 (io) "M-BUS", 2 VB, 3 STC, 4 RIDD (in) "Data Carrier Detect control input (active low)", 5 PF (out) "Data Terminal Ready control output (active low)", 6 SC, 7 TXI (out) "Asynchronous data output (UART Transmit)", 8 TX (out) "Asynchronous data output (UART Transmit)", 9 BAT (power), 10 VS (out) "Ready to Send control output (active low)", 11 VDD (power), 12 RX (in) "Asynchronous data input (UART Receive)", 13 RXI (in) "Asynchronous data input (UART Receive)", 14 RIS (in) "Data Carrier Detect control input (active low)", 15 GND (power), 16 BUSL1 (io) "M-BUS"

## USB MiniB CUT SHIELD
designator X?  Type: USB MiniB  (hidden comment: USB MiniB CUT SHIELD)
footprint USB miniB (SMD NNM) CUT SHIELD
pins: 1 VBUS, 2 D-, 3 D+, 4 ID, 5 GND, 6 SHLD, 7 SHLD, 8 SHLD, 9 SHLD, 10 SHLD

## USB_B_PLATED
designator X?
footprint USB_B_PLATED
pins: 1 +, 2 D-, 3 D+, 4 -, 5 SR (power) "GND", 6 SL (power) "GND"

## USB_TypeA_USBA_1M
designator X?, comment USB-A
Connector THT Type A USB connector; Manufacturer Part Number 1: 292304-1; Manufacturer 1: TE Connectivity; Specifications: USB 2.0; Package / Case: R/A Type A; Connector Type: USB - A
footprint USB_TypeA_USBA_1M
pins: 1 V+, 2 DM, 3 DP, 4 V-, MH Shell, MH Shell

## USB_TypeB
designator X?, comment USB-B
Connector THT Type B USB connector; Manufacturer Part Number 1: 292304-1; Manufacturer 1: TE Connectivity; Specifications: USB 2.0; Package / Case: R/A Type B; Supplier 1: Digi-Key; Connector Type: USB - B; Supplier Part Number 1: A31725-ND
footprint USB_TypeB_Tyco
footprint USB_TypeB_UP
pins: 1 V+, 2 DM, 3 DP, 4 V-, MH Shell, MH Shell

## USBLC6-2P6
designator D?
footprint SOT23-6
pins: 1 IO1, 2 GND, 3 IO3, 4 IO4, 5 VP, 6 IO2

## USBLC6-4SC6 / NUP2201MR6
designator D?, comment USBLC6-4SC6 / SRV05-4 / NUP2201MR6
footprint SOT23-6
pins: 1 IO1, 2 GND, 3 IO3, 4 IO4, 5 VP, 6 IO2

## XTAL
designator Q?  value Freq  (hidden comment: XTAL)
Crystal Oscillator; Manufacturer: Generic Components; Published: 8-Jun-2000; Revision: July-2002: Re-released for DXP Platform.; Publisher: Altium Limited; Class I: Oscillator; Class II: Crystal Oscillator
footprint HC49S (Quartz)
pins: 1 OSC1, 2 OSC2

## XTALKX7
designator Q?  value Freq  (hidden comment: XTALKX7)
Crystal Oscillator Geyer; Manufacturer: Generic Components; Published: 8-Jun-2000; Revision: July-2002: Re-released for DXP Platform.; Publisher: Altium Limited; Class I: Oscillator; Class II: Crystal Oscillator
footprint KX7 (Footprint not found)
pins: 1 OSC1, 2 OSC2

## XTALKX9A
designator Q?  value Freq  (hidden comment: XTALKX9A)
Crystal Oscillator Geyer; Manufacturer: Generic Components; Published: 8-Jun-2000; Revision: July-2002: Re-released for DXP Platform.; Publisher: Altium Limited; Class I: Oscillator; Class II: Crystal Oscillator
footprint KX9A (KX Quartz)
pins: 1 OSC1, 2 OSC2

## XTALKX9B
designator Q?  value Freq  (hidden comment: XTALKX9B)
Crystal Oscillator Geyer; Manufacturer: Generic Components; Published: 8-Jun-2000; Revision: July-2002: Re-released for DXP Platform.; Publisher: Altium Limited; Class I: Oscillator; Class II: Crystal Oscillator
footprint KX9B (Footprint not found)
pins: 1 OSC1, 2 OSC2

## XTALKX327NHT
designator Q?  value Freq  (hidden comment: XTALKX327NHT)
Crystal Oscillator Geyer; Manufacturer: Generic Components; Published: 8-Jun-2000; Revision: July-2002: Re-released for DXP Platform.; Publisher: Altium Limited; Class I: Oscillator; Class II: Crystal Oscillator
footprint KX327NHT (Footprint not found)
pins: 1 OSC1, 2 OSC2

## Z84C0010FEC
designator U?
CMOS 8-Bit Microprocessor; Published: 15-Apr-2002; LatestRevisionDate: 13-Apr-2006; LatestRevisionNote: IPC-7351 Footprint Added.; DatasheetVersion: Jan-1989; PackageReference: PQFP44; Publisher: Altium Limited; PackageDescription: 44-Pin Quad Flat Pack 0.8 mm Pitch; ComponentLink1Description: Manufacturer Link; ComponentLink1URL: http://www.zilog.com/; ComponentLink2Description: Datasheet; ComponentLink2URL: http://www.zilog.com/docs/z80/um0081.pdf
footprint PQFP44 (44-Pin Quad Flat Pack 0.8 mm Pitch, IPC Low Density)
3D model Z84C00-PQFP44 (44-Pin Quad Flat Pack 0.8 mm Pitch)
pins: 1 CLK (in), 2 D4 (io), 3 D3 (io), 4 D5 (io), 5 D6 (io), 6 +5V (power), 7 D2 (io), 8 D7 (io), 9 D0 (io), 10 D1 (io), 11 NC, 12 ~{INT} (in), 13 NMI (in), 14 ~{HALT} (out), 15 ~{MREQ} (hiz), 16 ~{IORQ} (hiz), 17 NC, 18 ~{RD} (hiz), 19 ~{WR} (hiz), 20 ~{BUSACK} (out), 21 ~{WAIT} (in), 22 ~{BUSREQ} (in), 23 ~{RST} (in), 24 ~{M1} (out), 25 ~{RFSH} (out), 26 GND (power), 27 A0 (hiz), 28 A1 (hiz), 29 A2 (hiz), 30 A3 (hiz), 31 A4 (hiz), 32 A5 (hiz), 33 NC, 34 A6 (hiz), 35 A7 (hiz), 36 A8 (hiz), 37 A9 (hiz), 38 A10 (hiz), 39 NC, 40 A11 (hiz), 41 A12 (hiz), 42 A13 (hiz), 43 A14 (hiz), 44 A15 (hiz)